# Altium integrated library LogoOrangeCrab.IntLib: 1 symbol
Pins are listed as number, name and electrical type; pins without a type are passive.

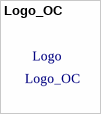
[diagram p0: symbol Logo_OC]

## Logo_OC
designator ?
footprint PCBComponent_1
text: Logo